# EAGLE library part SOIC_20 (library 1-Generic)
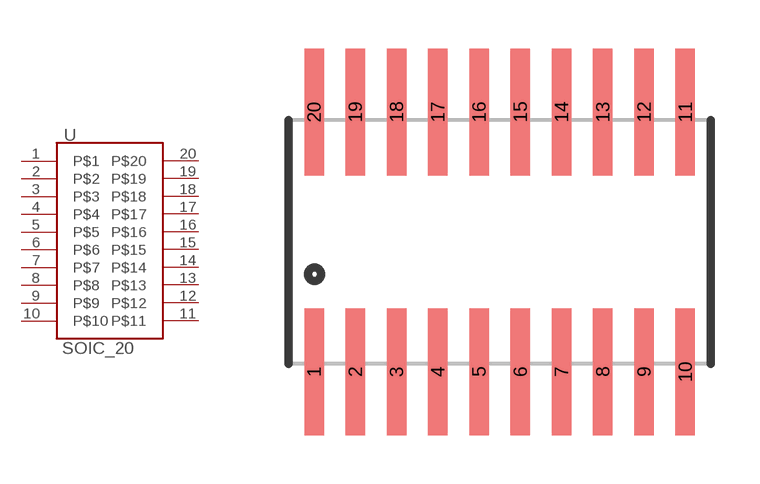
[diagram p20: symbol with the pads of SOIC-20-300MIL; footprint SOIC-20-300MIL]

Designator prefix -

## SOIC_20  [SOIC-20-300MIL]
1  P$1
2  P$2
3  P$3
4  P$4
5  P$5
6  P$6
7  P$7
8  P$8
9  P$9
10  P$10
11  P$11
12  P$12
13  P$13
14  P$14
15  P$15
16  P$16
17  P$17
18  P$18
19  P$19
20  P$20

## Footprint SOIC-20-300MIL (pad centres in mm)
20 pin soic package that should fit both wide and narrow, UNPROOVEN
smd 0.6 x 3.9: 1 -5.715,-4; 2 -4.445,-4; 3 -3.175,-4; 4 -1.905,-4; 5 -0.635,-4; 6 0.635,-4; 7 1.905,-4; 8 3.175,-4; 9 4.445,-4; 10 5.715,-4; 11 5.715,4; 12 4.445,4; 13 3.175,4; 14 1.905,4; 15 0.635,4; 16 -0.635,4; 17 -1.905,4; 18 -3.175,4; 19 -4.445,4; 20 -5.715,4